# Altium footprint library 2021-07-08_17-12-07.PcbLib: 3 footprints
Each footprint in its own frame and in the unit in brackets; x right, y up, seen from the top. Pads: shape width x height; smd on the part's side, far side on the other; paste and mask are expansions set on the pad; w line width, h text height; cw(c..) or ccw(c..) is an arc to the next point about the centre after c.
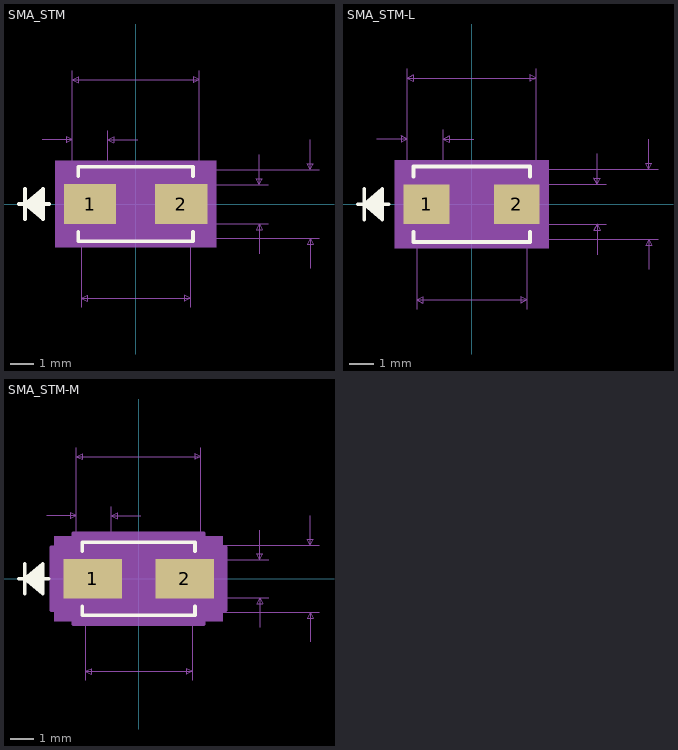
[diagram p0: the footprints below, top view; thin cyan lines are the x and y axes]

## SMA_STM [mil]
pads (2):
  rect 87x67 smd paste+0 mask+0: 1(-76,0) 2(76,0)
Top Overlay:
  lines w6: -194.5,0 -144.5,0 ; -184.5,-25 -184.5,25 ; -154.5,-20 -184.5,0 ; -154.5,-15 -184.5,0 ; -154.5,-10 -184.5,0 ; -154.5,-5 -184.5,0 ; -154.5,5 -184.5,0 ; -154.5,10 -184.5,0 ; -154.5,15 -184.5,0 ; -154.5,20 -184.5,0 ; -95.5,-46.6 -95.5,-62 95.5,-62 95.5,-46.6 ; -95.5,46.6 -95.5,62 95.5,62 95.5,46.6 ; -184.5,0 -154.5,25 -154.5,-25 -184.5,0
Mechanical 5:
  region: 134.5,-72 -134.5,-72 -134.5,72 134.5,72
Mechanical 7:
  lines w1: -155.5,107 -105.5,107 ; -105.5,122 -105.5,0 -105.5,222 ; -90.5,-172 -90.5,0 ; -46.5,0 -46.5,122 ; 0,-57 305.5,-57 ; 0,57 305.5,57 ; 3.5,107 -46.5,107 ; 90.5,-172 90.5,0 ; 105.5,-32.5 220.5,-32.5 ; 105.5,0 105.5,222 ; 105.5,32.5 220.5,32.5 ; 205.5,-82.5 205.5,-32.5 ; 205.5,82.5 205.5,32.5 ; 290.5,-107 290.5,-57 ; 290.5,107 290.5,57 ; -105.5,107 -115.5,112 -115.5,102 -105.5,107 ; -105.5,207 105.5,207 ; -105.5,207 -95.5,212 -95.5,202 -105.5,207 ; -90.5,-157 90.5,-157 ; -90.5,-157 -80.5,-152 -80.5,-162 -90.5,-157 ; -46.5,107 -36.5,112 -36.5,102 -46.5,107 ; 90.5,-157 80.5,-152 80.5,-162 90.5,-157 ; 105.5,207 95.5,212 95.5,202 105.5,207 ; 205.5,-32.5 200.5,-42.5 210.5,-42.5 205.5,-32.5 ; 205.5,32.5 200.5,42.5 210.5,42.5 205.5,32.5 ; 290.5,-57 285.5,-67 295.5,-67 290.5,-57 ; 290.5,57 285.5,67 295.5,67 290.5,57
  text "Default Padstyle: RX87Y67D0T" at -350,-358.5 h50
  text "Alt 1 Padstyle: OX60Y90D30P" at -337.5,-433.5 h50
  text "Alt 2 Padstyle: OX90Y60D30P" at -337.5,-508.5 h50
  text "0.211in/5.359mm" at -93.75,227 h25
  text "0.059in/1.499mm" at -169.75,127 h25
  text "0.065in/1.651mm" at 225.5,-12.5 h25
  text "0.114in/2.896mm" at 310.5,-12.5 h25
  text "0.181in/4.597mm" at -93.75,-202 h25
Mechanical 13:
  lines w1: -194.5,0 -144.5,0 ; -184.5,-25 -184.5,25 ; -154.5,-20 -184.5,0 ; -154.5,-15 -184.5,0 ; -154.5,-10 -184.5,0 ; -154.5,-5 -184.5,0 ; -154.5,5 -184.5,0 ; -154.5,10 -184.5,0 ; -154.5,15 -184.5,0 ; -154.5,20 -184.5,0 ; -90.5,-28.5 -62,-57 ; -90.5,28.5 -62,57 ; -184.5,0 -154.5,25 -154.5,-25 -184.5,0 ; -105.5,-32.5 -105.5,32.5 -90.5,32.5 -90.5,-32.5 -105.5,-32.5 ; -90.5,-57 90.5,-57 90.5,57 -90.5,57 -90.5,-57 ; 90.5,-32.5 90.5,32.5 105.5,32.5 105.5,-32.5 90.5,-32.5
Mechanical 15:
  region: -100.5,-43.5 -129.5,-43.5 -129.5,43.5 -100.5,43.5 -100.5,67 100.5,67 100.5,43.5 129.5,43.5 129.5,-43.5 100.5,-43.5 100.5,-67 -100.5,-67
  lines w6: -129.5,-43.5 -129.5,43.5 -100.5,43.5 -100.5,67 100.5,67 100.5,43.5 129.5,43.5 129.5,-43.5 100.5,-43.5 100.5,-67 -100.5,-67 -100.5,-43.5 -129.5,-43.5
3D body: height 10, standoff 0, extent 0,0 10,10

## SMA_STM-L [mil]
pads (2):
  rect 75x65 smd paste+0 mask+0: 1(-74,0) 2(74,0)
Top Overlay:
  lines w6: -186.5,0 -136.5,0 ; -176.5,-25 -176.5,25 ; -146.5,-20 -176.5,0 ; -146.5,-15 -176.5,0 ; -146.5,-10 -176.5,0 ; -146.5,-5 -176.5,0 ; -146.5,5 -176.5,0 ; -146.5,10 -176.5,0 ; -146.5,15 -176.5,0 ; -146.5,20 -176.5,0 ; -95.5,-45.6 -95.5,-62 95.5,-62 95.5,-45.6 ; -95.5,45.6 -95.5,62 95.5,62 95.5,45.6 ; -176.5,0 -146.5,25 -146.5,-25 -176.5,0
Mechanical 5:
  region: 126.5,-72 -126.5,-72 -126.5,72 126.5,72
Mechanical 7:
  lines w1: -155.5,107 -105.5,107 ; -105.5,122 -105.5,0 -105.5,222 ; -90.5,-172 -90.5,0 ; -46.5,0 -46.5,122 ; 0,-57 305.5,-57 ; 0,57 305.5,57 ; 3.5,107 -46.5,107 ; 90.5,-172 90.5,0 ; 105.5,-32.5 220.5,-32.5 ; 105.5,0 105.5,222 ; 105.5,32.5 220.5,32.5 ; 205.5,-82.5 205.5,-32.5 ; 205.5,82.5 205.5,32.5 ; 290.5,-107 290.5,-57 ; 290.5,107 290.5,57 ; -105.5,107 -115.5,112 -115.5,102 -105.5,107 ; -105.5,207 105.5,207 ; -105.5,207 -95.5,212 -95.5,202 -105.5,207 ; -90.5,-157 90.5,-157 ; -90.5,-157 -80.5,-152 -80.5,-162 -90.5,-157 ; -46.5,107 -36.5,112 -36.5,102 -46.5,107 ; 90.5,-157 80.5,-152 80.5,-162 90.5,-157 ; 105.5,207 95.5,212 95.5,202 105.5,207 ; 205.5,-32.5 200.5,-42.5 210.5,-42.5 205.5,-32.5 ; 205.5,32.5 200.5,42.5 210.5,42.5 205.5,32.5 ; 290.5,-57 285.5,-67 295.5,-67 290.5,-57 ; 290.5,57 285.5,67 295.5,67 290.5,57
  text "Default Padstyle: RX75Y65D0T" at -350,-357.5 h50
  text "Alt 1 Padstyle: OX60Y90D30P" at -337.5,-432.5 h50
  text "Alt 2 Padstyle: OX90Y60D30P" at -337.5,-507.5 h50
  text "0.211in/5.359mm" at -93.75,227 h25
  text "0.059in/1.499mm" at -169.75,127 h25
  text "0.065in/1.651mm" at 225.5,-12.5 h25
  text "0.114in/2.896mm" at 310.5,-12.5 h25
  text "0.181in/4.597mm" at -93.75,-202 h25
Mechanical 13:
  lines w1: -186.5,0 -136.5,0 ; -176.5,-25 -176.5,25 ; -146.5,-20 -176.5,0 ; -146.5,-15 -176.5,0 ; -146.5,-10 -176.5,0 ; -146.5,-5 -176.5,0 ; -146.5,5 -176.5,0 ; -146.5,10 -176.5,0 ; -146.5,15 -176.5,0 ; -146.5,20 -176.5,0 ; -90.5,-28.5 -62,-57 ; -90.5,28.5 -62,57 ; -176.5,0 -146.5,25 -146.5,-25 -176.5,0 ; -105.5,-32.5 -105.5,32.5 -90.5,32.5 -90.5,-32.5 -105.5,-32.5 ; -90.5,-57 90.5,-57 90.5,57 -90.5,57 -90.5,-57 ; 90.5,-32.5 90.5,32.5 105.5,32.5 105.5,-32.5 90.5,-32.5
Mechanical 15:
  region: -94.5,-36.5 -115.5,-36.5 -115.5,36.5 -94.5,36.5 -94.5,61 94.5,61 94.5,36.5 115.5,36.5 115.5,-36.5 94.5,-36.5 94.5,-61 -94.5,-61
  lines w6: -115.5,-36.5 -115.5,36.5 -94.5,36.5 -94.5,61 94.5,61 94.5,36.5 115.5,36.5 115.5,-36.5 94.5,-36.5 94.5,-61 -94.5,-61 -94.5,-36.5 -115.5,-36.5
3D body: height 10, standoff 0, extent 0,0 10,10

## SMA_STM-M [mil]
pads (2):
  rect 99x67 smd paste+0 mask+0: 1(-78,0) 2(78,0)
Top Overlay:
  lines w6: -202.5,0 -152.5,0 ; -192.5,-25 -192.5,25 ; -162.5,-20 -192.5,0 ; -162.5,-15 -192.5,0 ; -162.5,-10 -192.5,0 ; -162.5,-5 -192.5,0 ; -162.5,5 -192.5,0 ; -162.5,10 -192.5,0 ; -162.5,15 -192.5,0 ; -162.5,20 -192.5,0 ; -95.5,-46.6 -95.5,-62 95.5,-62 95.5,-46.6 ; -95.5,46.6 -95.5,62 95.5,62 95.5,46.6 ; -192.5,0 -162.5,25 -162.5,-25 -192.5,0
Mechanical 5:
  region: 142.5,-72 -142.5,-72 -142.5,72 142.5,72
Mechanical 7:
  lines w1: -155.5,107 -105.5,107 ; -105.5,122 -105.5,0 -105.5,222 ; -90.5,-172 -90.5,0 ; -46.5,0 -46.5,122 ; 0,-57 305.5,-57 ; 0,57 305.5,57 ; 3.5,107 -46.5,107 ; 90.5,-172 90.5,0 ; 105.5,-32.5 220.5,-32.5 ; 105.5,0 105.5,222 ; 105.5,32.5 220.5,32.5 ; 205.5,-82.5 205.5,-32.5 ; 205.5,82.5 205.5,32.5 ; 290.5,-107 290.5,-57 ; 290.5,107 290.5,57 ; -105.5,107 -115.5,112 -115.5,102 -105.5,107 ; -105.5,207 105.5,207 ; -105.5,207 -95.5,212 -95.5,202 -105.5,207 ; -90.5,-157 90.5,-157 ; -90.5,-157 -80.5,-152 -80.5,-162 -90.5,-157 ; -46.5,107 -36.5,112 -36.5,102 -46.5,107 ; 90.5,-157 80.5,-152 80.5,-162 90.5,-157 ; 105.5,207 95.5,212 95.5,202 105.5,207 ; 205.5,-32.5 200.5,-42.5 210.5,-42.5 205.5,-32.5 ; 205.5,32.5 200.5,42.5 210.5,42.5 205.5,32.5 ; 290.5,-57 285.5,-67 295.5,-67 290.5,-57 ; 290.5,57 285.5,67 295.5,67 290.5,57
  text "Default Padstyle: RX99Y67D0T" at -350,-358.5 h50
  text "Alt 1 Padstyle: OX60Y90D30P" at -337.5,-433.5 h50
  text "Alt 2 Padstyle: OX90Y60D30P" at -337.5,-508.5 h50
  text "0.211in/5.359mm" at -93.75,227 h25
  text "0.059in/1.499mm" at -169.75,127 h25
  text "0.065in/1.651mm" at 225.5,-12.5 h25
  text "0.114in/2.896mm" at 310.5,-12.5 h25
  text "0.181in/4.597mm" at -93.75,-202 h25
Mechanical 13:
  lines w1: -202.5,0 -152.5,0 ; -192.5,-25 -192.5,25 ; -162.5,-20 -192.5,0 ; -162.5,-15 -192.5,0 ; -162.5,-10 -192.5,0 ; -162.5,-5 -192.5,0 ; -162.5,5 -192.5,0 ; -162.5,10 -192.5,0 ; -162.5,15 -192.5,0 ; -162.5,20 -192.5,0 ; -90.5,-28.5 -62,-57 ; -90.5,28.5 -62,57 ; -192.5,0 -162.5,25 -162.5,-25 -192.5,0 ; -105.5,-32.5 -105.5,32.5 -90.5,32.5 -90.5,-32.5 -105.5,-32.5 ; -90.5,-57 90.5,-57 90.5,57 -90.5,57 -90.5,-57 ; 90.5,-32.5 90.5,32.5 105.5,32.5 105.5,-32.5 90.5,-32.5
Mechanical 15:
  region: -110.5,-53.5 -147.5,-53.5 -147.5,53.5 -110.5,53.5 -110.5,77 110.5,77 110.5,53.5 147.5,53.5 147.5,-53.5 110.5,-53.5 110.5,-77 -110.5,-77
  lines w6: -147.5,-53.5 -147.5,53.5 -110.5,53.5 -110.5,77 110.5,77 110.5,53.5 147.5,53.5 147.5,-53.5 110.5,-53.5 110.5,-77 -110.5,-77 -110.5,-53.5 -147.5,-53.5
3D body: height 10, standoff 0, extent 0,0 10,10